# EAGLE library part PCA9536 (library PCA9536)
4-bit I2C-bus and SMBus low power I/O port
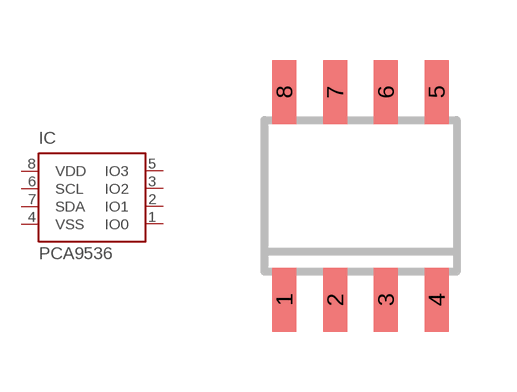
[diagram p0: symbol with the pads of SO8; footprint SO8]

Designator prefix IC

## PCA9536  [SO8]
1  IO0
2  IO1
3  IO2
4  VSS  pwr
5  IO3
6  SCL  in
7  SDA
8  VDD  pwr

## Footprint SO8 (pad centres in mm)
SO8: plastic small outline package; 8 leads; body width 3.9 mm Source: http://www.nxp.com/documents/data_sheet/PCA82C250.pdf
smd 0.6 x 1.6: 1 -1.905,-2.6; 2 -0.635,-2.6; 3 0.635,-2.6; 4 1.905,-2.6; 5 1.905,2.6; 6 0.635,2.6; 7 -0.635,2.6; 8 -1.905,2.6